# EAGLE library part 25AA010A (library custom)
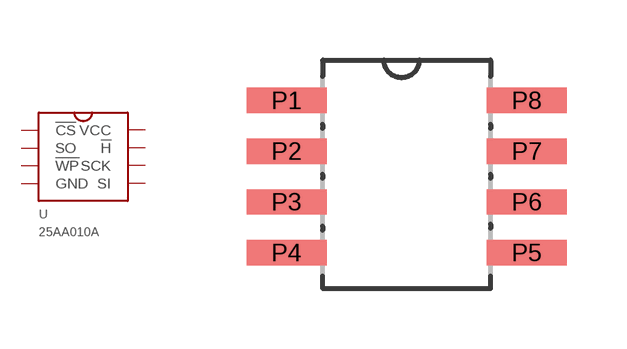
[diagram p9: symbol with the pads of SOIC8; footprint SOIC8]

Designator prefix -

## 25AA010A  [SOIC8]
P1  !CS
P2  SO
P3  !WP
P4  GND
P5  SI
P6  SCK
P7  !H
P8  VCC

## Footprint SOIC8 (pad centres in mm)
smd 2 x 0.635: P1 -3.04,1.91; P2 -3.04,0.64; P3 -3.04,-0.63; P4 -3.04,-1.9; P5 2.967,-1.9; P6 2.967,-0.63; P7 2.967,0.64; P8 2.967,1.91